# EAGLE library part LCD-HD44780-16-PIN_MALE_HEADER (library myLib-01-Headers)
Header for the 16 pin HD44780 LCD module Male
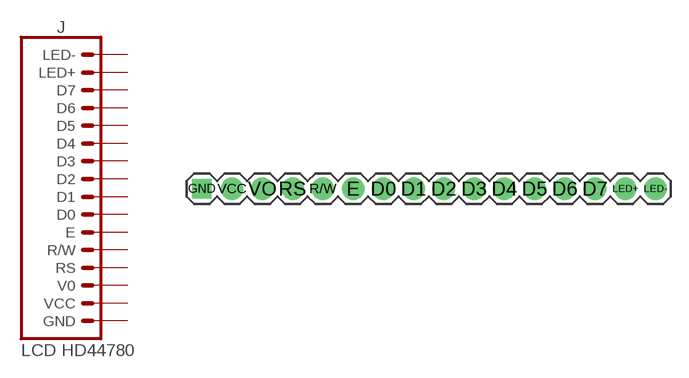
[diagram p0: symbol with the pads of LCD-HD44780-16-PIN_MALE_HEADER; footprint LCD-HD44780-16-PIN_MALE_HEADER]

Designator prefix J

## LCD-HD44780-16-PIN_MALE_HEADER  [LCD-HD44780-16-PIN_MALE_HEADER]
D0  D0  pas
D1  D1  pas
D2  D2  pas
D3  D3  pas
D4  D4  pas
D5  D5  pas
D6  D6  pas
D7  D7  pas
E  E  pas
GND  GND  pas
LED+  LED+  pas
LED-  LED-  pas
R/W  R/W  pas
RS  RS  pas
VCC  VCC  pas
VO  V0  pas

## Footprint LCD-HD44780-16-PIN_MALE_HEADER (pad centres in mm)
Plated Through Hole -16 Pin Specifications: Pin count:16 Pin pitch:0.1" Example device(s): CONN_16
drill 1.016 pad 1.88: D0 15.24,0; D1 17.78,0; D2 20.32,0; D3 22.86,0; D4 25.4,0; D5 27.94,0; D6 30.48,0; D7 33.02,0; E 12.7,0; LED+ 35.56,0; LED- 38.1,0; R/W 10.16,0; RS 7.62,0; VCC 2.54,0; VO 5.08,0
drill 1.016 pad 1.676 square: GND 0,0